# Altium footprint library TC2050-IDC.PcbLib: 1 footprints
Each footprint in its own frame and in the unit in brackets; x right, y up, seen from the top. Pads: shape width x height; smd on the part's side, far side on the other; paste and mask are expansions set on the pad; w line width, h text height; cw(c..) or ccw(c..) is an arc to the next point about the centre after c.
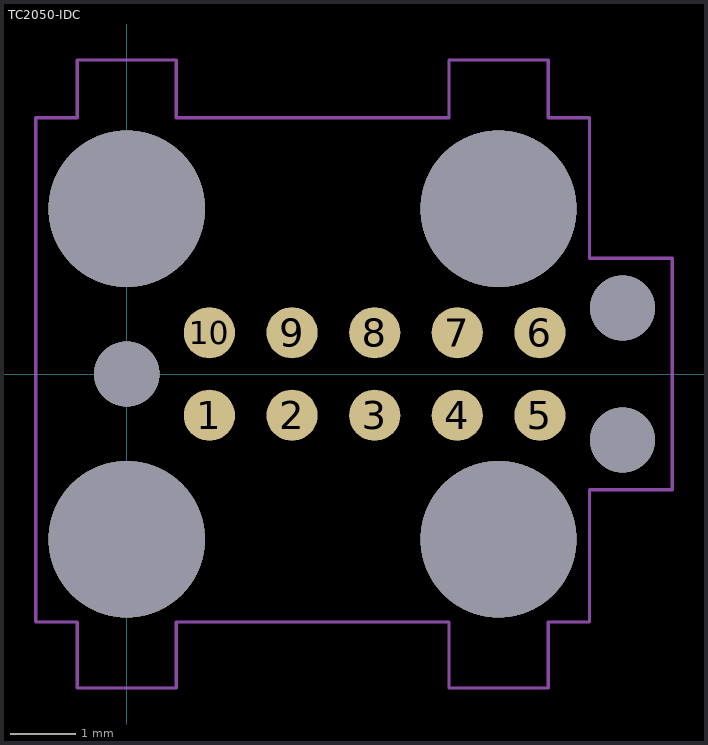
[diagram p0: the footprint, top view; thin cyan lines are the x and y axes]

## TC2050-IDC [mil]
pads (10):
  round 31 smd paste-100 mask+0: 1(50,-25) 2(100,-25) 3(150,-25) 4(200,-25) 5(250,-25) 6(250,25) 7(200,25) 8(150,25) 9(100,25) 10(50,25)
via 300,40 diameter 39.37 hole 39.37
via 300,-40 diameter 39.37 hole 39.37
via 0,0 diameter 39.37 hole 39.37
via 225,-100 diameter 94.49 hole 94.49
via 0,-100 diameter 94.49 hole 94.49
via 0,100 diameter 94.49 hole 94.49
via 225,100 diameter 94.49 hole 94.49
Top Courtyard:
  lines w1.97: -55,-150 -55,155 -30,155 -30,190 30,190 30,155 195,155 195,190 255,190 255,155 280,155 280,70 330,70 330,-70 280,-70 280,-150 255,-150 255,-190 195,-190 195,-150 30,-150 30,-190 -30,-190 -30,-150 -55,-150